# Altium schematic symbol library SCH - MCU - MICROCHIP - MICROCHIP PIC18F97J60.SchLib: 1 symbol
Pins are listed as number, name and electrical type; pins without a type are passive.

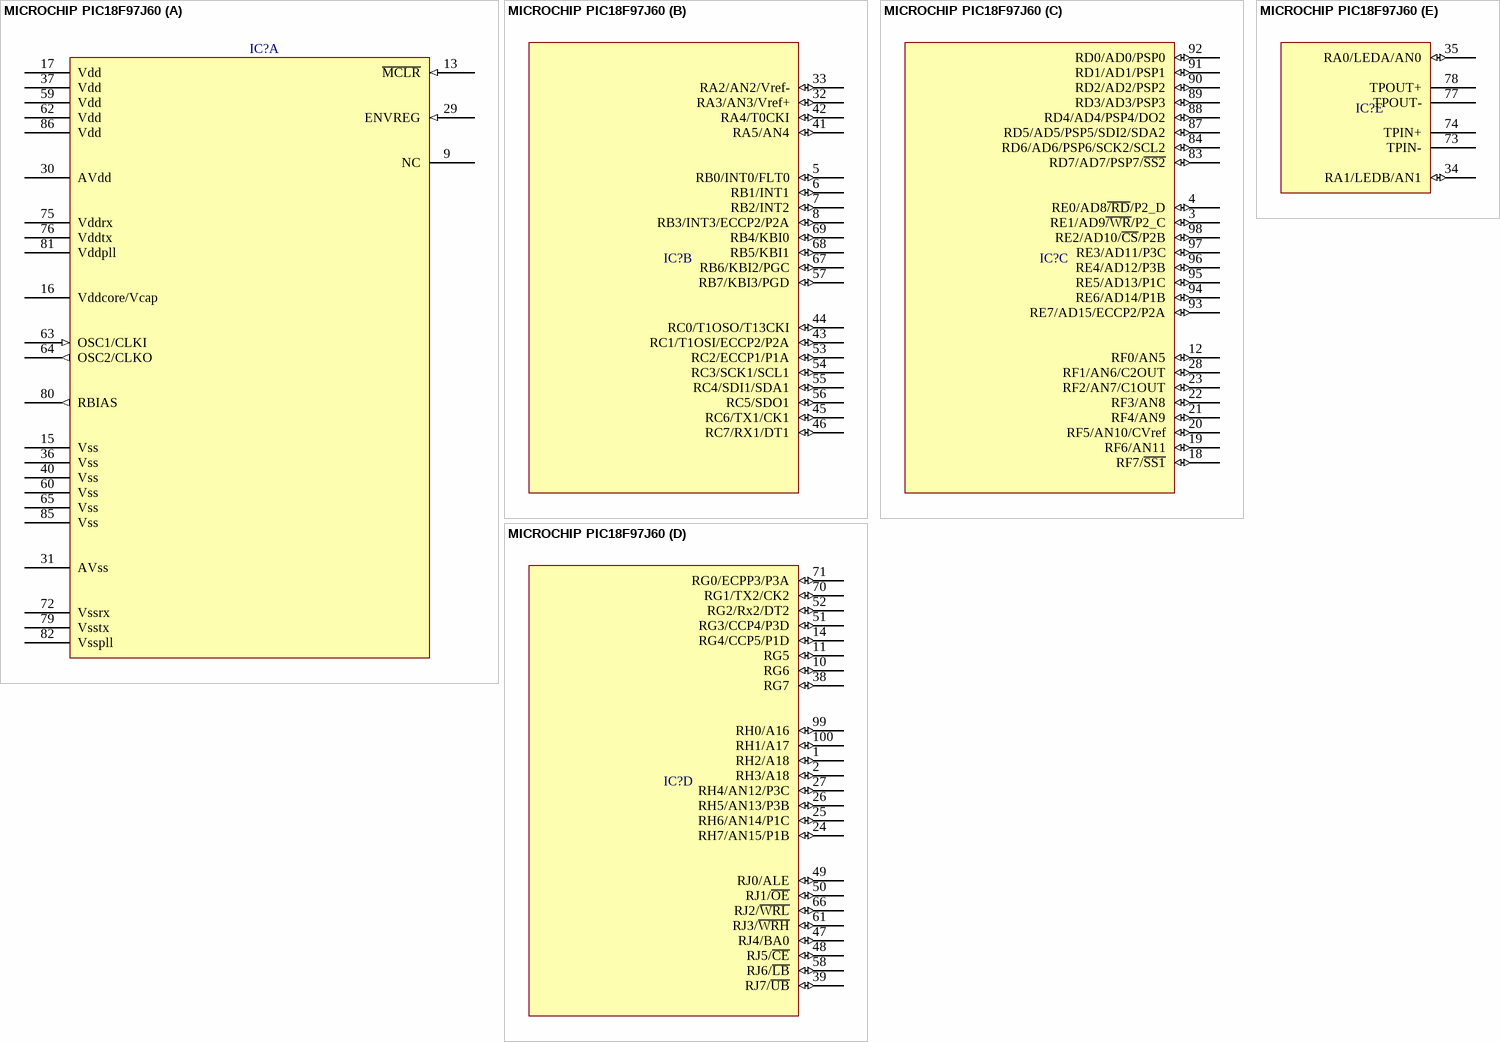
[diagram p0: symbol MICROCHIP PIC18F97J60]

## MICROCHIP PIC18F97J60
designator IC?  (value not drawn)
part A pins: 9 NC (hiz), 13 ~{MCLR} (in), 15 Vss (power), 16 Vddcore/Vcap (power), 17 Vdd (power), 29 ENVREG (in), 30 AVdd (power), 31 AVss (power), 36 Vss (power), 37 Vdd (power), 40 Vss (power), 59 Vdd (power), 60 Vss (power), 62 Vdd (power), 63 OSC1/CLKI (in), 64 OSC2/CLKO (out), 65 Vss (power), 72 Vssrx (power), 75 Vddrx (power), 76 Vddtx, 79 Vsstx (power), 80 RBIAS (out), 81 Vddpll (power), 82 Vsspll (power), 85 Vss (power), 86 Vdd (power)
part B pins: 5 RB0/INT0/FLT0 (io), 6 RB1/INT1 (io), 7 RB2/INT2 (io), 8 RB3/INT3/ECCP2/P2A (io), 32 RA3/AN3/Vref+ (io) "Analog pin", 33 RA2/AN2/Vref- (io) "Analog pin", 41 RA5/AN4 (io) "Analog pin", 42 RA4/T0CKI (io), 43 RC1/T1OSI/ECCP2/P2A (io), 44 RC0/T1OSO/T13CKI (io), 45 RC6/TX1/CK1 (io), 46 RC7/RX1/DT1 (io), 53 RC2/ECCP1/P1A (io), 54 RC3/SCK1/SCL1 (io), 55 RC4/SDI1/SDA1 (io), 56 RC5/SDO1 (io), 57 RB7/KBI3/PGD (io), 67 RB6/KBI2/PGC (io), 68 RB5/KBI1 (io), 69 RB4/KBI0 (io)
part C pins: 3 RE1/AD9~{/WR}/P2_C (io), 4 RE0/AD8~{/RD}/P2_D (io), 12 RF0/AN5 (io) "Analog pin", 18 RF7/~{SS1} (io), 19 RF6/AN11 (io) "Analog pin", 20 RF5/AN10/CVref (io) "Analog pin", 21 RF4/AN9 (io) "Analog pin", 22 RF3/AN8 (io) "Analog pin", 23 RF2/AN7/C1OUT (io) "Analog pin", 28 RF1/AN6/C2OUT (io) "Analog pin", 83 RD7/AD7/PSP7/~{SS2} (io), 84 RD6/AD6/PSP6/SCK2/SCL2 (io), 87 RD5/AD5/PSP5/SDI2/SDA2 (io), 88 RD4/AD4/PSP4/DO2 (io), 89 RD3/AD3/PSP3 (io), 90 RD2/AD2/PSP2 (io), 91 RD1/AD1/PSP1 (io), 92 RD0/AD0/PSP0 (io), 93 RE7/AD15/ECCP2/P2A (io), 94 RE6/AD14/P1B (io), 95 RE5/AD13/P1C (io), 96 RE4/AD12/P3B (io), 97 RE3/AD11/P3C (io), 98 RE2/AD10/~{CS}/P2B (io)
part D pins: 1 RH2/A18 (io), 2 RH3/A18 (io), 10 RG6 (io), 11 RG5 (io), 14 RG4/CCP5/P1D (io), 24 RH7/AN15/P1B (io) "Analog pin", 25 RH6/AN14/P1C (io) "Analog pin", 26 RH5/AN13/P3B (io) "Analog pin", 27 RH4/AN12/P3C (io) "Analog pin", 38 RG7 (io), 39 RJ7/~{UB} (io), 47 RJ4/BA0 (io), 48 RJ5/~{CE} (io), 49 RJ0/ALE (io), 50 RJ1/~{OE} (io), 51 RG3/CCP4/P3D (io), 52 RG2/Rx2/DT2 (io), 58 RJ6/~{LB} (io), 61 RJ3/~{WRH} (io), 66 RJ2/~{WRL} (io), 70 RG1/TX2/CK2 (io), 71 RG0/ECPP3/P3A (io), 99 RH0/A16 (io), 100 RH1/A17 (io)
part E pins: 34 RA1/LEDB/AN1 (io) "Analog pin", 35 RA0/LEDA/AN0 (io) "Analog pin", 73 TPIN-, 74 TPIN+, 77 TPOUT-, 78 TPOUT+